# Altium schematic symbol library ATmega2560-16AU.SchLib: 1 symbol
Pins are listed as number, name and electrical type; pins without a type are passive.

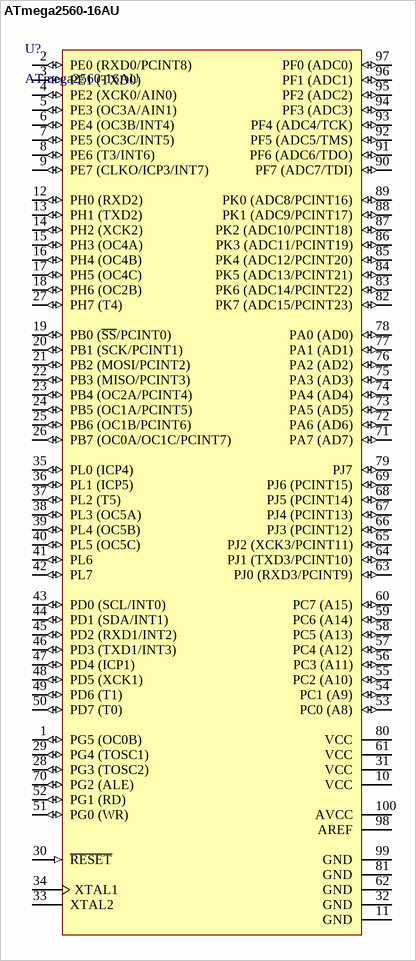
[diagram p0: symbol ATmega2560-16AU]

## ATmega2560-16AU
designator U?
8-bit AVR Microcontroller, 4.5-5.5V, 16MHz, 256KB Flash, 4KB EEPROM, 8KB SRAM, 86 GPIO pins, 100-pin TQFP, Industrial Grade (-40°C to 85°C), Pb-Free; Manufacturer: Microchip / Atmel; Interface: 2-Wire,EBI/EMI,I2C,SPI,UART,USART; Data Bus Width: 8b; Number of I/Os: 86; Oscillator Type: Internal; Peripherals: Brown-out Detect/Reset,POR,PWM,WDT; Number of Timers/Counters: 6; Min Supply Voltage: 4.5V; Max Supply Voltage: 5.5V; Watchdog Timer: Yes; Operating Supply Voltage: 5V; Access Time: 16us; Number of PWM Channels: 12; Number of ADC Channels: 16; Number of SPI Channels: 1; Supplier 1: Digi-Key; Manufacturer Part Number: ATMEGA2560-16AU; Stock 1: 11396; Pricing 1: 1 = 12.21000, 25 = 11.18600, 100 = 10.13520 (USD); RoHS: Yes; Mount: Surface Mount; Case/Package: A; Number of Pins: 100; Number of Terminals: 100; Min Operating Temperature: -40°C; Max Operating Temperature: 85°C; Core Architecture: AVR; Package Quantity: 90; Packaging: Tray; Memory Size: 256KB; Frequency: 16MHz; Memory Type: FLASH; RAM Size: 8KB; Max Frequency: 16MHz; Number of Programmable I/O: 86; Density: 256KB; Number of I2C Channels: 1; Termination: SMD/SMT; Length: 14.1mm; Height: 1.05mm; Width: 14.1mm; Radiation Hardening: No; Lead Free: Lead Free; REACH SVHC: No SVHC; ComponentLink1URL: http://www.farnell.com/datasheets/2013645.pdf?src-supplier=Element14; ComponentLink1Description: http://www.farnell.com/datasheets/2013645.pdf?src-supplier=Element14; ComponentLink2URL: http://www.farnell.com/datasheets/1817551.pdf?src-supplier=Verical; ComponentLink2Description: http://www.farnell.com/datasheets/1817551.pdf?src-supplier=Verical; ComponentLink3URL: http://www.microchip.com/mymicrochip/filehandler.aspx?ddocname=en589901&src-supplier=Digi-Key; ComponentLink3Description: http://www.microchip.com/mymicrochip/filehandler.aspx?ddocname=en589901&src-supplier=Digi-Key; ComponentLink4URL: http://www.farnell.com/datasheets/33246.pdf?src-supplier=Farnell; ComponentLink4Description: http://www.farnell.com/datasheets/33246.pdf?src-supplier=Farnell; ComponentLink5URL: http://www.alliedelec.com/images/products/datasheets/bm/ATMEL/70123980.pdf?src-supplier=Allied+Electronics; ComponentLink5Description: http://www.alliedelec.com/images/products/datasheets/bm/ATMEL/70123980.pdf?src-supplier=Allied+Electronics; ComponentLink6URL: http://www.farnell.com/datasheets/1698622.pdf?src-supplier=Farnell; ComponentLink6Description: http://www.farnell.com/datasheets/1698622.pdf?src-supplier=Farnell; ComponentLink7URL: http://datasheet.iiic.cc/atmel/ATMEGA2560-16AU.pdf?src-supplier=IIIC; ComponentLink7Description: http://datasheet.iiic.cc/atmel/ATMEGA2560-16AU.pdf?src-supplier=IIIC; ComponentLink8URL: http://www.produktinfo.conrad.com/datenblaetter/150000-174999/154804-da-01-en-ATMEGA2560_16AU_TQFP_100.pdf?src-supplier=Conrad; ComponentLink8Description: http://www.produktinfo.conrad.com/datenblaetter/150000-174999/154804-da-01-en-ATMEGA2560_16AU_TQFP_100.pdf?src-supplier=Conrad; Supplier Part Number 1: ATMEGA2560-16AU-ND; Pin Count: 100
footprint TSQFP50P1600X1600X120-100M (TSQFP, 100-Leads, Body 14.00x14.00mm, Pitch 0.50mm, IPC Low Density)
pins: 1 PG5 (OC0B) (io), 2 PE0 (RXD0/PCINT8) (io), 3 PE1 (TXD0) (io), 4 PE2 (XCK0/AIN0) (io), 5 PE3 (OC3A/AIN1) (io), 6 PE4 (OC3B/INT4) (io), 7 PE5 (OC3C/INT5) (io), 8 PE6 (T3/INT6) (io), 9 PE7 (CLKO/ICP3/INT7) (io), 10 VCC (power), 11 GND (power), 12 PH0 (RXD2) (io), 13 PH1 (TXD2) (io), 14 PH2 (XCK2) (io), 15 PH3 (OC4A) (io), 16 PH4 (OC4B) (io), 17 PH5 (OC4C) (io), 18 PH6 (OC2B) (io), 19 PB0 (~{SS}/PCINT0) (io), 20 PB1 (SCK/PCINT1) (io), 21 PB2 (MOSI/PCINT2) (io), 22 PB3 (MISO/PCINT3) (io), 23 PB4 (OC2A/PCINT4) (io), 24 PB5 (OC1A/PCINT5) (io), 25 PB6 (OC1B/PCINT6) (io), 26 PB7 (OC0A/OC1C/PCINT7) (io), 27 PH7 (T4) (io), 28 PG3 (TOSC2) (io), 29 PG4 (TOSC1) (io), 30 ~{RESET} (in), 31 VCC (power), 32 GND (power), 33 XTAL2, 34 XTAL1, 35 PL0 (ICP4) (io), 36 PL1 (ICP5) (io), 37 PL2 (T5) (io), 38 PL3 (OC5A) (io), 39 PL4 (OC5B) (io), 40 PL5 (OC5C) (io), 41 PL6 (io), 42 PL7 (io), 43 PD0 (SCL/INT0) (io), 44 PD1 (SDA/INT1) (io), 45 PD2 (RXD1/INT2) (io), 46 PD3 (TXD1/INT3) (io), 47 PD4 (ICP1) (io), 48 PD5 (XCK1) (io), 49 PD6 (T1) (io), 50 PD7 (T0) (io), 51 PG0 (WR) (io), 52 PG1 (RD) (io), 53 PC0 (A8) (io), 54 PC1 (A9) (io), 55 PC2 (A10) (io), 56 PC3 (A11) (io), 57 PC4 (A12) (io), 58 PC5 (A13) (io), 59 PC6 (A14) (io), 60 PC7 (A15) (io), 61 VCC (power), 62 GND (power), 63 PJ0 (RXD3/PCINT9) (io), 64 PJ1 (TXD3/PCINT10) (io), 65 PJ2 (XCK3/PCINT11) (io), 66 PJ3 (PCINT12) (io), 67 PJ4 (PCINT13) (io), 68 PJ5 (PCINT14) (io), 69 PJ6 (PCINT15) (io), 70 PG2 (ALE) (io), 71 PA7 (AD7) (io), 72 PA6 (AD6) (io), 73 PA5 (AD5) (io), 74 PA4 (AD4) (io), 75 PA3 (AD3) (io), 76 PA2 (AD2) (io), 77 PA1 (AD1) (io), 78 PA0 (AD0) (io), 79 PJ7 (io), 80 VCC (power), 81 GND (power), 82 PK7 (ADC15/PCINT23) (io), 83 PK6 (ADC14/PCINT22) (io), 84 PK5 (ADC13/PCINT21) (io), 85 PK4 (ADC12/PCINT20) (io), 86 PK3 (ADC11/PCINT19) (io), 87 PK2 (ADC10/PCINT18) (io), 88 PK1 (ADC9/PCINT17) (io), 89 PK0 (ADC8/PCINT16) (io), 90 PF7 (ADC7/TDI) (io), 91 PF6 (ADC6/TDO) (io), 92 PF5 (ADC5/TMS) (io), 93 PF4 (ADC4/TCK) (io), 94 PF3 (ADC3) (io), 95 PF2 (ADC2) (io), 96 PF1 (ADC1) (io), 97 PF0 (ADC0) (io), 98 AREF (power), 99 GND (power), 100 AVCC (power)